# Altium integrated library Analog Devices Data Converters Analog-to-Digital Converters.IntLib: 2404 symbols (part 229 of 346)
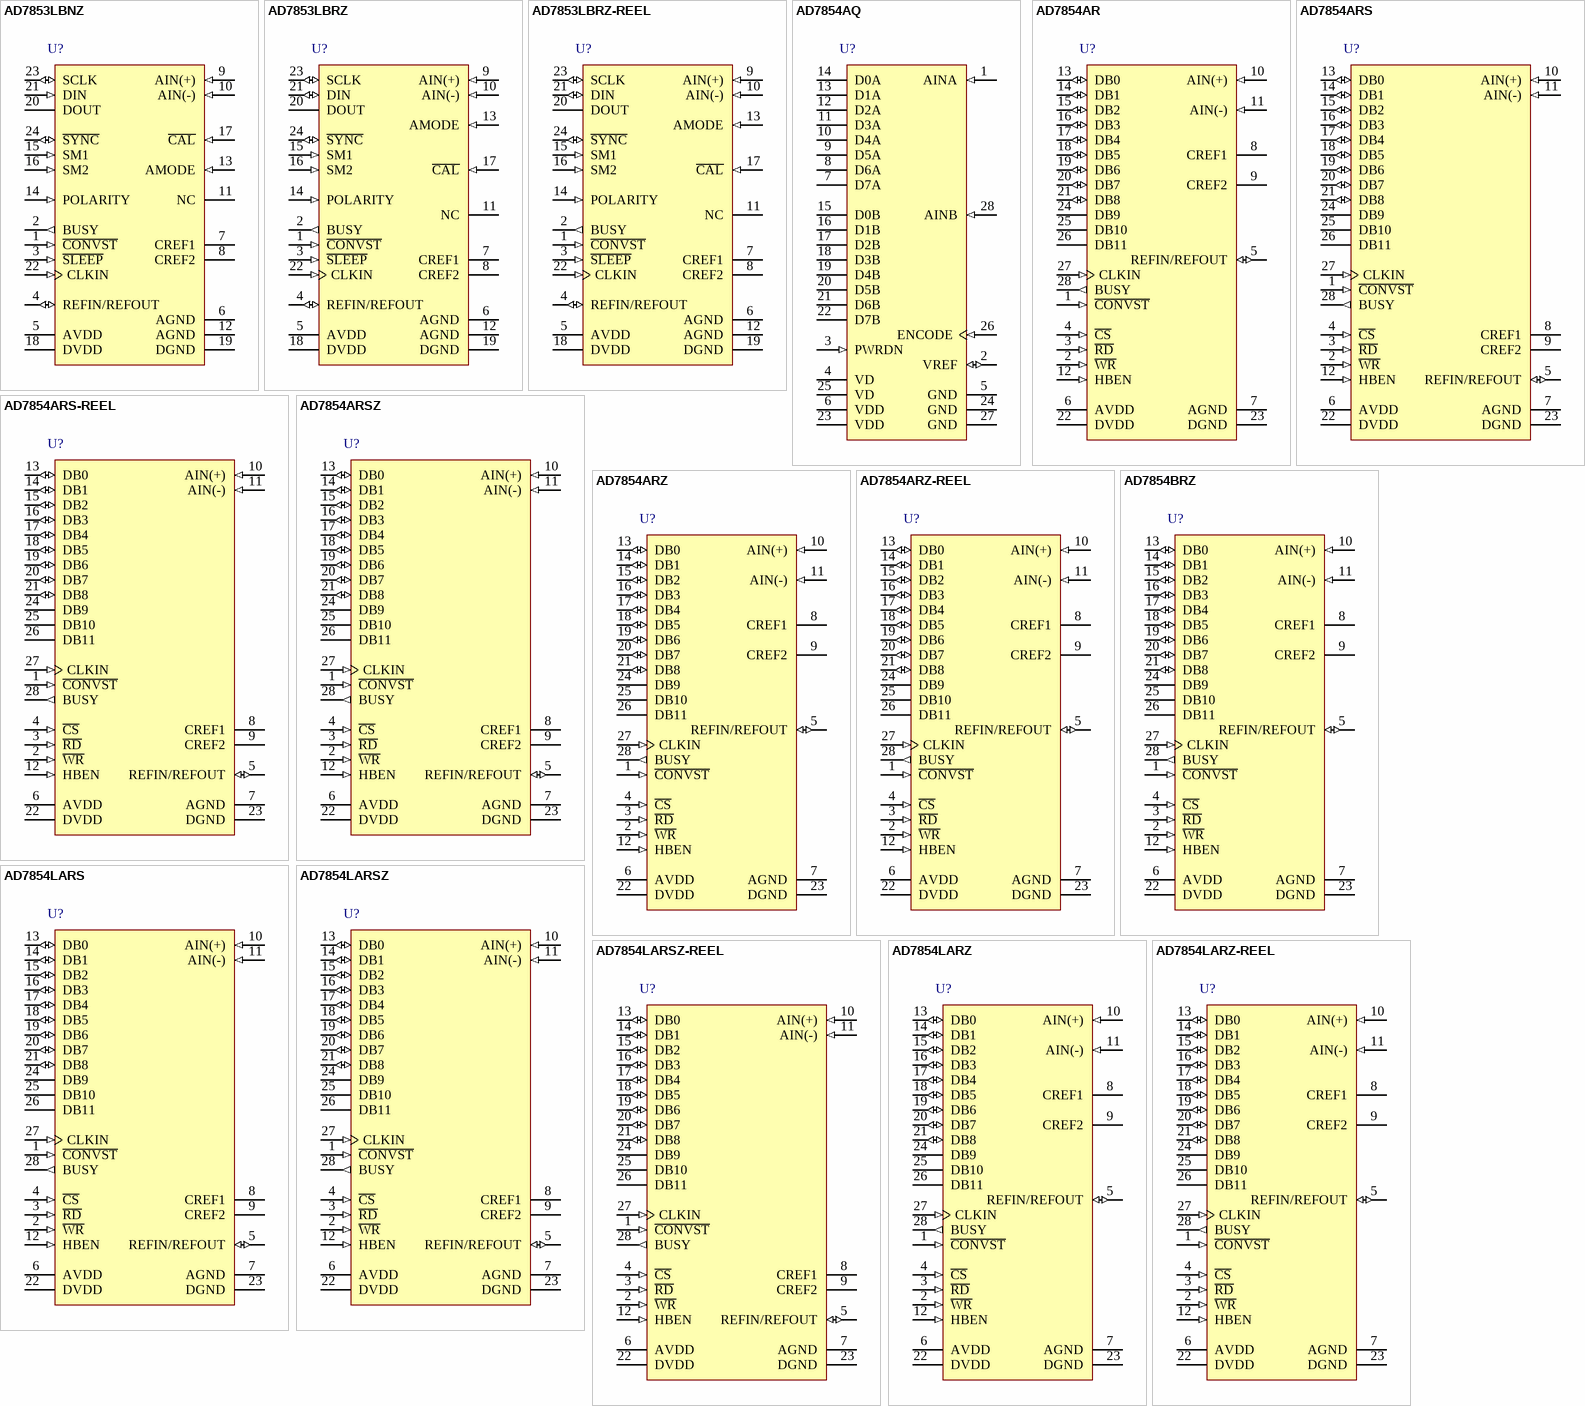
[diagram p377: symbols AD7853LBNZ to AD7854LARZ-REEL]

## AD7854ARZ
designator U?
Single 12-Bit Sampling Analog-to-Digital Converter with Byte, Parallel Interface, Single Supply, 3V to 5 V 200KSPS, -40 to +85 degC, RW-28, Pb-Free, Tube; Generic Part Number: AD7854-200; Manufacturer: Analog Devices; PartNumber: AD7854ARZ; Resolution (Bits): 12; Channels: 1; Throughput Rate (SPS): 200K; DatasheetVersion: Rev.B; PackageVersion: 060706-A; PackageReference: RW-28; PackageDescription: 28-Lead Standard Small Outline Package [SOIC_W]; Supplier 1: Digi-Key; Supplier Part Number 1: AD7854ARZ-ND; Supplier 2: Mouser; Supplier Part Number 2: 584-AD7854ARZ; Interface: Byte, Par; RoHS: Y; Packing: Tube; Mounting Technology: Surface Mount; Code_JEDEC: MS-013-AE; ComponentLink1Description: Manufacturer URL; ComponentLink1URL: http://www.analog.com/en/index.html; ComponentLink2Description: Datasheet; ComponentLink2URL: http://www.analog.com/static/imported-files/data_sheets/AD7854_7854L.pdf; ComponentLink3Description: Package Specification; ComponentLink3URL: http://www.analog.com/static/imported-files/packages/35833120341221RW_28.pdf; ComponentLink4Description: Product URL; ComponentLink4URL: http://www.analog.com/en/analog-to-digital-converters/ad-converters/ad7854/products/product.html
footprint RW-28_N (SOIC, 28-Leads, Body 17.9x7.5mm, Pitch 1.27mm, IPC Medium Density)
footprint RW-28_L (SOIC, 28-Leads, Body 17.9x7.5mm, Pitch 1.27mm, IPC High Density)
footprint RW-28_M (SOIC, 28-Leads, Body 17.9x7.5mm, Pitch 1.27mm, IPC Low Density)
pins: 1 ~{CONVST} (in) "Convert Start. Logic input. A low to high transition on this input puts the track/hold into its hold mode and starts conversion. When this input is not used, it should be tied to DVDD.", 2 ~{WR} (in) "Write Input.  Active low logic input.  Used in conjunction with C\S\ and HBEN to write to internal registers.", 3 ~{RD} (in) "Read Input.  Active low logic input.  Used in conjunction with C\S\ and HBEN to read from internal registers.", 4 ~{CS} (in) "Chip Select Input.  Active low logic input.  The device is selected when this input is active.", 5 REFIN/REFOUT (io) "Reference Input/Output. This pin is connected to the internal reference through a series resistor and is the reference source for the analog-to-digital converter. The nominal reference voltage is 2.5 V and this appears at (See Datasheet)", 6 AVDD (power) "Analog Positive Supply Voltage, +3.0 V to +5.5 V.", 7 AGND (power) "Analog Ground. Ground reference for track/hold, reference and DAC.", 8 CREF1 "Reference Capacitor (0.1 µF  multilayer ceramic). This external capacitor is used as a charge source for the internal DAC. The capacitor should be tied between the pin and AGND.", 9 CREF2 "Reference Capacitor (0.01 µF ceramic disc). This external capacitor is used in conjunction with the on-chip reference. The capacitor should be tied between the pin and AGND.", 10 AIN(+) (in) "Analog Input. Positive input of the pseudo-differential analog input. Cannot go below AGND or above AVDD at any time, and cannot go below AIN(-) when the unipolar input range is selected.", 11 AIN(-) (in) "Analog Input. Negative input of the pseudo-differential analog input. Cannot go below AGND or above AVDD at any time.", 12 HBEN (in) "High Byte Enable Input. The AD7854 operates in byte mode only but outputs 12 bits of data during a read cycle with HBEN low.  When HBEN is high, then the high byte of data that is written to or read from the part is on DB0 (See Datasheet)", 13 DB0 (io) "Data Bits 0. Three state data I/O pins that are controlled by C\S\, R\D\, W\R\ and HBEN.  Data output is straight binary (unipolar mode) or twos complement (bipolar mode).", 14 DB1 (io) "Data Bits 1. Three state data I/O pins that are controlled by C\S\, R\D\, W\R\ and HBEN.  Data output is straight binary (unipolar mode) or twos complement (bipolar mode).", 15 DB2 (io) "Data Bits 2. Three state data I/O pins that are controlled by C\S\, R\D\, W\R\ and HBEN.  Data output is straight binary (unipolar mode) or twos complement (bipolar mode).", 16 DB3 (io) "Data Bits 3. Three state data I/O pins that are controlled by C\S\, R\D\, W\R\ and HBEN.  Data output is straight binary (unipolar mode) or twos complement (bipolar mode).", 17 DB4 (io) "Data Bits 4. Three state data I/O pins that are controlled by C\S\, R\D\, W\R\ and HBEN.  Data output is straight binary (unipolar mode) or twos complement (bipolar mode).", 18 DB5 (io) "Data Bits 5. Three state data I/O pins that are controlled by C\S\, R\D\, W\R\ and HBEN.  Data output is straight binary (unipolar mode) or twos complement (bipolar mode).", 19 DB6 (io) "Data Bits 6. Three state data I/O pins that are controlled by C\S\, R\D\, W\R\ and HBEN.  Data output is straight binary (unipolar mode) or twos complement (bipolar mode).", 20 DB7 (io) "Data Bits 7. Three state data I/O pins that are controlled by C\S\, R\D\, W\R\ and HBEN.  Data output is straight binary (unipolar mode) or twos complement (bipolar mode).", 21 DB8 (io) "Data Bits 8. Three state data I/O pins that are controlled by C\S\, R\D\, W\R\ and HBEN.  Data output is straight binary (unipolar mode) or twos complement (bipolar mode).", 22 DVDD (power) "Digital Supply Voltage, +3.0 V to +5.5 V.", 23 DGND (power) "Digital Ground. Ground reference point for digital circuitry.", 24 DB9 (hiz) "Data Bits 9. Three state data output pins that are controlled by C\S\, R\D\ and HBEN.  Data output is straight binary (unipolar mode) or twos complement (bipolar mode). These output pins should be tied to DVDD via 100 k ohm (See Datasheet)", 25 DB10 (hiz) "Data Bits 10. Three state data output pins that are controlled by C\S\, R\D\ and HBEN.  Data output is straight binary (unipolar mode) or twos complement (bipolar mode). These output pins should be tied to DVDD via 100 k ohm (See Datasheet)", 26 DB11 (hiz) "Data Bits 11. Three state data output pins that are controlled by C\S\, R\D\ and HBEN.  Data output is straight binary (unipolar mode) or twos complement (bipolar mode). These output pins should be tied to DVDD via 100 k ohm (See Datasheet)", 27 CLKIN (in) "Master Clock Signal for the device (4 MHz for AD7854, 1.8 MHz for AD7854L). Sets the conversion and calibration times.", 28 BUSY (out) "Busy Output. The busy output is triggered high by the falling edge of C\O\N\V\S\T\ and remains high until conversion is completed. BUSY is also used to indicate when the AD7854/AD7854L has completed its onchip calibration (See Datasheet)"

## AD7854ARZ-REEL
designator U?
Single 12-Bit Sampling Analog-to-Digital Converter with Byte, Parallel Interface, Single Supply, 3V to 5 V 200KSPS, -40 to +85 degC, RW-28, Pb-Free, Reel; Generic Part Number: AD7854-200; Manufacturer: Analog Devices; PartNumber: AD7854ARZ-REEL; Resolution (Bits): 12; Channels: 1; Throughput Rate (SPS): 200K; DatasheetVersion: Rev.B; PackageVersion: 060706-A; PackageReference: RW-28; PackageDescription: 28-Lead Standard Small Outline Package [SOIC_W]; Supplier 1: Digi-Key; Supplier Part Number 1: AD7854ARZ-REEL-ND; Supplier 2: Mouser; Supplier Part Number 2: 584-AD7854ARZ-R; Interface: Byte, Par; RoHS: Y; Packing: Reel; Mounting Technology: Surface Mount; Code_JEDEC: MS-013-AE; ComponentLink1Description: Manufacturer URL; ComponentLink1URL: http://www.analog.com/en/index.html; ComponentLink2Description: Datasheet; ComponentLink2URL: http://www.analog.com/static/imported-files/data_sheets/AD7854_7854L.pdf; ComponentLink3Description: Package Specification; ComponentLink3URL: http://www.analog.com/static/imported-files/packages/35833120341221RW_28.pdf; ComponentLink4Description: Product URL; ComponentLink4URL: http://www.analog.com/en/analog-to-digital-converters/ad-converters/ad7854/products/product.html
footprint RW-28_N (SOIC, 28-Leads, Body 17.9x7.5mm, Pitch 1.27mm, IPC Medium Density)
footprint RW-28_L (SOIC, 28-Leads, Body 17.9x7.5mm, Pitch 1.27mm, IPC High Density)
footprint RW-28_M (SOIC, 28-Leads, Body 17.9x7.5mm, Pitch 1.27mm, IPC Low Density)
pins: 1 ~{CONVST} (in) "Convert Start. Logic input. A low to high transition on this input puts the track/hold into its hold mode and starts conversion. When this input is not used, it should be tied to DVDD.", 2 ~{WR} (in) "Write Input.  Active low logic input.  Used in conjunction with C\S\ and HBEN to write to internal registers.", 3 ~{RD} (in) "Read Input.  Active low logic input.  Used in conjunction with C\S\ and HBEN to read from internal registers.", 4 ~{CS} (in) "Chip Select Input.  Active low logic input.  The device is selected when this input is active.", 5 REFIN/REFOUT (io) "Reference Input/Output. This pin is connected to the internal reference through a series resistor and is the reference source for the analog-to-digital converter. The nominal reference voltage is 2.5 V and this appears at (See Datasheet)", 6 AVDD (power) "Analog Positive Supply Voltage, +3.0 V to +5.5 V.", 7 AGND (power) "Analog Ground. Ground reference for track/hold, reference and DAC.", 8 CREF1 "Reference Capacitor (0.1 µF  multilayer ceramic). This external capacitor is used as a charge source for the internal DAC. The capacitor should be tied between the pin and AGND.", 9 CREF2 "Reference Capacitor (0.01 µF ceramic disc). This external capacitor is used in conjunction with the on-chip reference. The capacitor should be tied between the pin and AGND.", 10 AIN(+) (in) "Analog Input. Positive input of the pseudo-differential analog input. Cannot go below AGND or above AVDD at any time, and cannot go below AIN(-) when the unipolar input range is selected.", 11 AIN(-) (in) "Analog Input. Negative input of the pseudo-differential analog input. Cannot go below AGND or above AVDD at any time.", 12 HBEN (in) "High Byte Enable Input. The AD7854 operates in byte mode only but outputs 12 bits of data during a read cycle with HBEN low.  When HBEN is high, then the high byte of data that is written to or read from the part is on DB0 (See Datasheet)", 13 DB0 (io) "Data Bits 0. Three state data I/O pins that are controlled by C\S\, R\D\, W\R\ and HBEN.  Data output is straight binary (unipolar mode) or twos complement (bipolar mode).", 14 DB1 (io) "Data Bits 1. Three state data I/O pins that are controlled by C\S\, R\D\, W\R\ and HBEN.  Data output is straight binary (unipolar mode) or twos complement (bipolar mode).", 15 DB2 (io) "Data Bits 2. Three state data I/O pins that are controlled by C\S\, R\D\, W\R\ and HBEN.  Data output is straight binary (unipolar mode) or twos complement (bipolar mode).", 16 DB3 (io) "Data Bits 3. Three state data I/O pins that are controlled by C\S\, R\D\, W\R\ and HBEN.  Data output is straight binary (unipolar mode) or twos complement (bipolar mode).", 17 DB4 (io) "Data Bits 4. Three state data I/O pins that are controlled by C\S\, R\D\, W\R\ and HBEN.  Data output is straight binary (unipolar mode) or twos complement (bipolar mode).", 18 DB5 (io) "Data Bits 5. Three state data I/O pins that are controlled by C\S\, R\D\, W\R\ and HBEN.  Data output is straight binary (unipolar mode) or twos complement (bipolar mode).", 19 DB6 (io) "Data Bits 6. Three state data I/O pins that are controlled by C\S\, R\D\, W\R\ and HBEN.  Data output is straight binary (unipolar mode) or twos complement (bipolar mode).", 20 DB7 (io) "Data Bits 7. Three state data I/O pins that are controlled by C\S\, R\D\, W\R\ and HBEN.  Data output is straight binary (unipolar mode) or twos complement (bipolar mode).", 21 DB8 (io) "Data Bits 8. Three state data I/O pins that are controlled by C\S\, R\D\, W\R\ and HBEN.  Data output is straight binary (unipolar mode) or twos complement (bipolar mode).", 22 DVDD (power) "Digital Supply Voltage, +3.0 V to +5.5 V.", 23 DGND (power) "Digital Ground. Ground reference point for digital circuitry.", 24 DB9 (hiz) "Data Bits 9. Three state data output pins that are controlled by C\S\, R\D\ and HBEN.  Data output is straight binary (unipolar mode) or twos complement (bipolar mode). These output pins should be tied to DVDD via 100 k ohm (See Datasheet)", 25 DB10 (hiz) "Data Bits 10. Three state data output pins that are controlled by C\S\, R\D\ and HBEN.  Data output is straight binary (unipolar mode) or twos complement (bipolar mode). These output pins should be tied to DVDD via 100 k ohm (See Datasheet)", 26 DB11 (hiz) "Data Bits 11. Three state data output pins that are controlled by C\S\, R\D\ and HBEN.  Data output is straight binary (unipolar mode) or twos complement (bipolar mode). These output pins should be tied to DVDD via 100 k ohm (See Datasheet)", 27 CLKIN (in) "Master Clock Signal for the device (4 MHz for AD7854, 1.8 MHz for AD7854L). Sets the conversion and calibration times.", 28 BUSY (out) "Busy Output. The busy output is triggered high by the falling edge of C\O\N\V\S\T\ and remains high until conversion is completed. BUSY is also used to indicate when the AD7854/AD7854L has completed its onchip calibration (See Datasheet)"